# Altium schematic symbol library Analog Devices Amplifiers and Linear Comparators.SchLib: 160 symbols (part 7 of 9)
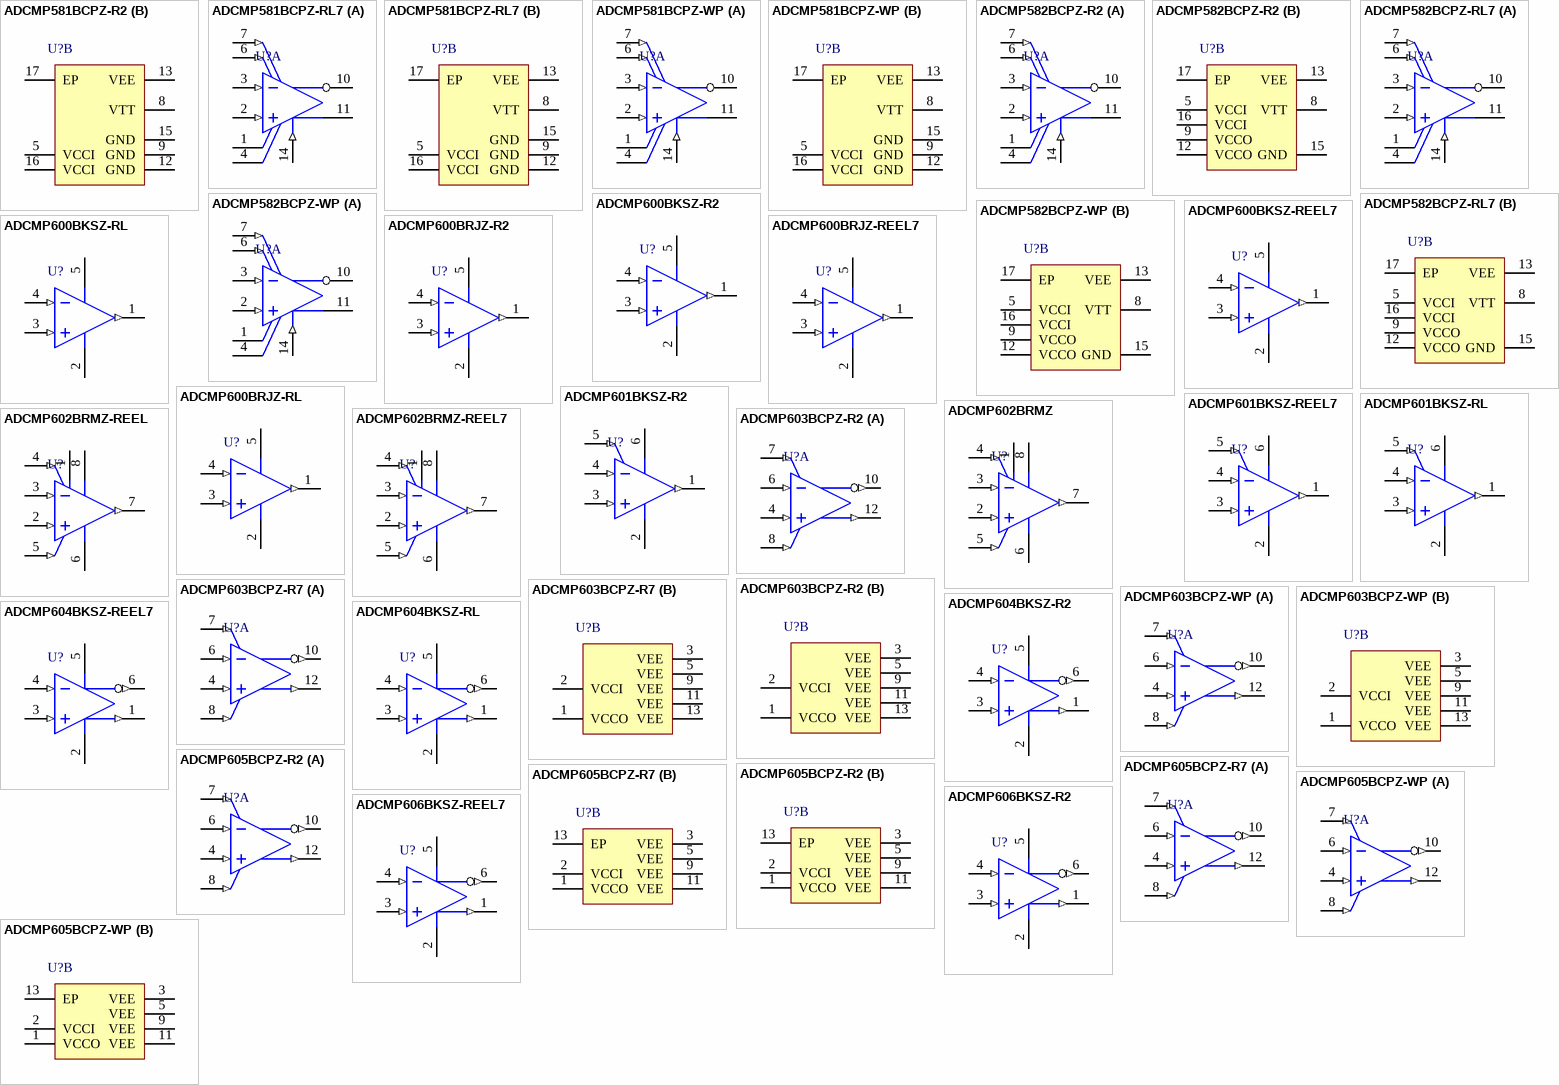
[diagram p13: symbols ADCMP581BCPZ-R2 to ADCMP606BKSZ-REEL7]

## ADCMP601BKSZ-R2
designator U?
Rail-to-Rail, Very Fast, Single-Supply TTL / CMOS Comparator, 2.5 to 5.5 V, 3.5 ns Delay, Industrial, 6-pin SOT23 (KS-6), Reel; Manufacturer: Analog Devices; PartNumber: ADCMP601BKSZ-R2; Input Range (V): -0.2 to VCC+0.2; Supply Current: 3 to 3.5mA; DatasheetVersion: Rev. A; PackageVersion: 072809-A, 07/2009; PackageReference: KS-6; PackageDescription: 6-Pin Thin Shrink Small Outline Transistor Package, Body 2 x 1.25 mm, Pitch 0.65 mm; Supplier 1: Digi-Key; Supplier Part Number 1: ADCMP601BKSZ-R2TR-ND; Supplier 2: Digi-Key; Supplier Part Number 2: ADCMP601BKSZ-R2CT-ND; Supplier 3: Digi-Key; Supplier Part Number 3: ADCMP601BKSZ-R2DKR-ND; Supplier 4: Farnell; Supplier Part Number 4: 1331025; Supplier 5: Farnell; Supplier Part Number 5: 2118961; Supplier 6: Mouser; Supplier Part Number 6: 584-ADCMP601BKSZ-R2; Packing: Reel; Voltage Supply (V): 2.5 to 5.5; Mounting Technology: Surface Mount; Code_JEDEC: MO-203-AB; ComponentLink1Description: Manufacturer URL; ComponentLink1URL: http://www.analog.com/en/index.html; ComponentLink2Description: Datasheet; ComponentLink2URL: http://www.analog.com/static/imported-files/data_sheets/ADCMP600_601_602.pdf; ComponentLink3Description: Package Specification; ComponentLink3URL: http://www.analog.com/static/imported-files/packages/PKG_PDF/SC70(KS)/KS_6.pdf; ComponentLink4Description: URL Link1; ComponentLink4URL: Product URL:http://www.analog.com/en/special-linear-functions/comparators/adcmp601/products/product.html
footprint ADI-KS-6_N (SOT23, 6-Leads, Body 2x1.25mm, Pitch 0.65mm, IPC Medium Density)
footprint ADI-KS-6_L (SOT23, 6-Leads, Body 2x1.25mm, Pitch 0.65mm, IPC High Density)
footprint ADI-KS-6_M (SOT23, 6-Leads, Body 2x1.25mm, Pitch 0.65mm, IPC Low Density)
pins: 1 Q (out) "Noninverting Output. Q is at logic high if the analog voltage at the noninverting input, VP, is greater than the analog voltage at the inverting input, VN, if the comparator is in compare mode.", 2 GND (power) "Negative Supply Voltage.", 3 VP (in) "Noninverting Analog Input.", 4 VN (in) "Inverting Analog Input.", 5 LE/HYS (in) "Latch/Hysteresis Control. Bias with resistor or current for hysteresis adjustment; drive low to latch.", 6 VCCI/VCCO (power) "Input Section Supply/Output Section Supply. Shared pin."

## ADCMP601BKSZ-REEL7
designator U?
Rail-to-Rail, Very Fast, Single-Supply TTL / CMOS Comparator, 2.5 to 5.5 V, 3.5 ns Delay, Industrial, 6-pin SOT23 (KS-6), Reel; Manufacturer: Analog Devices; PartNumber: ADCMP601BKSZ-REEL7; Input Range (V): -0.2 to VCC+0.2; Supply Current: 3 to 3.5mA; DatasheetVersion: Rev. A; PackageVersion: 072809-A, 07/2009; PackageReference: KS-6; PackageDescription: 6-Pin Thin Shrink Small Outline Transistor Package, Body 2 x 1.25 mm, Pitch 0.65 mm; Supplier 1: Digi-Key; Supplier Part Number 1: ADCMP601BKSZ-REEL7TR-ND; Supplier 2: Digi-Key; Supplier Part Number 2: ADCMP601BKSZ-REEL7CT-ND; Supplier 3: Digi-Key; Supplier Part Number 3: ADCMP601BKSZ-REEL7DKR-ND; Supplier 4: Mouser; Supplier Part Number 4: 584-ADCMP601BKSZR7; Packing: Reel; Voltage Supply (V): 2.5 to 5.5; Mounting Technology: Surface Mount; Code_JEDEC: MO-203-AB; ComponentLink1Description: Manufacturer URL; ComponentLink1URL: http://www.analog.com/en/index.html; ComponentLink2Description: Datasheet; ComponentLink2URL: http://www.analog.com/static/imported-files/data_sheets/ADCMP600_601_602.pdf; ComponentLink3Description: Package Specification; ComponentLink3URL: http://www.analog.com/static/imported-files/packages/PKG_PDF/SC70(KS)/KS_6.pdf; ComponentLink4Description: URL Link1; ComponentLink4URL: Product URL:http://www.analog.com/en/special-linear-functions/comparators/adcmp601/products/product.html
footprint ADI-KS-6_N (SOT23, 6-Leads, Body 2x1.25mm, Pitch 0.65mm, IPC Medium Density)
footprint ADI-KS-6_L (SOT23, 6-Leads, Body 2x1.25mm, Pitch 0.65mm, IPC High Density)
footprint ADI-KS-6_M (SOT23, 6-Leads, Body 2x1.25mm, Pitch 0.65mm, IPC Low Density)
pins: 1 Q (out) "Noninverting Output. Q is at logic high if the analog voltage at the noninverting input, VP, is greater than the analog voltage at the inverting input, VN, if the comparator is in compare mode.", 2 GND (power) "Negative Supply Voltage.", 3 VP (in) "Noninverting Analog Input.", 4 VN (in) "Inverting Analog Input.", 5 LE/HYS (in) "Latch/Hysteresis Control. Bias with resistor or current for hysteresis adjustment; drive low to latch.", 6 VCCI/VCCO (power) "Input Section Supply/Output Section Supply. Shared pin."

## ADCMP601BKSZ-RL
designator U?
Rail-to-Rail, Very Fast, Single-Supply TTL / CMOS Comparator, 2.5 to 5.5 V, 3.5 ns Delay, Industrial, 6-pin SOT23 (KS-6), Reel; Manufacturer: Analog Devices; PartNumber: ADCMP601BKSZ-RL; Input Range (V): -0.2 to VCC+0.2; Supply Current: 3 to 3.5mA; DatasheetVersion: Rev. A; PackageVersion: 072809-A, 07/2009; PackageReference: KS-6; PackageDescription: 6-Pin Thin Shrink Small Outline Transistor Package, Body 2 x 1.25 mm, Pitch 0.65 mm; Supplier 1: Digi-Key; Supplier Part Number 1: ADCMP601BKSZ-RL-ND; Supplier 2: Mouser; Supplier Part Number 2: 584-ADCMP601BKSZ-R; Packing: Reel; Voltage Supply (V): 2.5 to 5.5; Mounting Technology: Surface Mount; Code_JEDEC: MO-203-AB; ComponentLink1Description: Manufacturer URL; ComponentLink1URL: http://www.analog.com/en/index.html; ComponentLink2Description: Datasheet; ComponentLink2URL: http://www.analog.com/static/imported-files/data_sheets/ADCMP600_601_602.pdf; ComponentLink3Description: Package Specification; ComponentLink3URL: http://www.analog.com/static/imported-files/packages/PKG_PDF/SC70(KS)/KS_6.pdf; ComponentLink4Description: URL Link1; ComponentLink4URL: Product URL:http://www.analog.com/en/special-linear-functions/comparators/adcmp601/products/product.html
footprint ADI-KS-6_N (SOT23, 6-Leads, Body 2x1.25mm, Pitch 0.65mm, IPC Medium Density)
footprint ADI-KS-6_L (SOT23, 6-Leads, Body 2x1.25mm, Pitch 0.65mm, IPC High Density)
footprint ADI-KS-6_M (SOT23, 6-Leads, Body 2x1.25mm, Pitch 0.65mm, IPC Low Density)
pins: 1 Q (out) "Noninverting Output. Q is at logic high if the analog voltage at the noninverting input, VP, is greater than the analog voltage at the inverting input, VN, if the comparator is in compare mode.", 2 GND (power) "Negative Supply Voltage.", 3 VP (in) "Noninverting Analog Input.", 4 VN (in) "Inverting Analog Input.", 5 LE/HYS (in) "Latch/Hysteresis Control. Bias with resistor or current for hysteresis adjustment; drive low to latch.", 6 VCCI/VCCO (power) "Input Section Supply/Output Section Supply. Shared pin."

## ADCMP602BRMZ
designator U?
Rail-to-Rail, Very Fast, Single-Supply TTL / CMOS Comparator, 2.5 to 5.5 V, 3.5 ns Delay, Industrial, 8-pin SOP (RM-8), Tube; Manufacturer: Analog Devices; PartNumber: ADCMP602BRMZ; Input Range (V): -0.2 to VCC+0.2; Supply Current: 3 to 3.5mA; DatasheetVersion: Rev. A; PackageVersion: Aug-05; PackageReference: RM-8; PackageDescription: 8-Pin Mini Small Outline Package, Body 3 x 3 mm, Pitch 0.65 mm; Supplier 1: Digi-Key; Supplier Part Number 1: ADCMP602BRMZ-ND; Supplier 2: Farnell; Supplier Part Number 2: 1331026; Supplier 3: Mouser; Supplier Part Number 3: 584-ADCMP602BRMZ; Packing: Tube; Voltage Supply (V): 2.5 to 5.5; Mounting Technology: Surface Mount; Code_JEDEC: MO-187-AA; ComponentLink1Description: Manufacturer URL; ComponentLink1URL: http://www.analog.com/en/index.html; ComponentLink2Description: Datasheet; ComponentLink2URL: http://www.analog.com/static/imported-files/data_sheets/ADCMP600_601_602.pdf; ComponentLink3Description: Package Specification; ComponentLink3URL: http://www.analog.com/static/imported-files/packages/PKG_PDF/MSOP%28RM%29/RM_8.pdf; ComponentLink4Description: URL Link1; ComponentLink4URL: Product URL:http://www.analog.com/en/special-linear-functions/comparators/adcmp602/products/product.html
footprint ADI-RM-8_N (SOP, 8-Leads, Body 3x3mm, Pitch 0.65mm, IPC Medium Density)
footprint ADI-RM-8_L (SOP, 8-Leads, Body 3x3mm, Pitch 0.65mm, IPC High Density)
footprint ADI-RM-8_M (SOP, 8-Leads, Body 3x3mm, Pitch 0.65mm, IPC Low Density)
pins: 1 VCCI (power) "Input Section Supply.", 2 VP (in) "Noninverting Analog Input.", 3 VN (in) "Inverting Analog Input.", 4 SDN (in) "Shutdown. Drive this pin low to shut down the device.", 5 LE/HYS (in) "Latch/Hysteresis Control. Bias with resistor or current for hysteresis adjustment; drive low to latch.", 6 GND (power) "Negative Supply Voltage.", 7 Q (out) "Noninverting Output. Q is at logic high if the analog voltage at the noninverting input, VP, is greater than the analog voltage at the inverting input, VN, if the comparator is in compare mode.", 8 VCCO (power) "Output Section Supply."

## ADCMP602BRMZ-REEL
designator U?
Rail-to-Rail, Very Fast, Single-Supply TTL / CMOS Comparator, 2.5 to 5.5 V, 3.5 ns Delay, Industrial, 8-pin SOP (RM-8), Reel; Manufacturer: Analog Devices; PartNumber: ADCMP602BRMZ-REEL; Input Range (V): -0.2 to VCC+0.2; Supply Current: 3 to 3.5mA; DatasheetVersion: Rev. A; PackageVersion: Aug-05; PackageReference: RM-8; PackageDescription: 8-Pin Mini Small Outline Package, Body 3 x 3 mm, Pitch 0.65 mm; Supplier 1: Digi-Key; Supplier Part Number 1: ADCMP602BRMZ-REEL-ND; Supplier 2: Mouser; Supplier Part Number 2: 584-ADCMP602BRMZ-R; Packing: Reel; Voltage Supply (V): 2.5 to 5.5; Mounting Technology: Surface Mount; Code_JEDEC: MO-187-AA; ComponentLink1Description: Manufacturer URL; ComponentLink1URL: http://www.analog.com/en/index.html; ComponentLink2Description: Datasheet; ComponentLink2URL: http://www.analog.com/static/imported-files/data_sheets/ADCMP600_601_602.pdf; ComponentLink3Description: Package Specification; ComponentLink3URL: http://www.analog.com/static/imported-files/packages/PKG_PDF/MSOP%28RM%29/RM_8.pdf; ComponentLink4Description: URL Link1; ComponentLink4URL: Product URL:http://www.analog.com/en/special-linear-functions/comparators/adcmp602/products/product.html
footprint ADI-RM-8_N (SOP, 8-Leads, Body 3x3mm, Pitch 0.65mm, IPC Medium Density)
footprint ADI-RM-8_L (SOP, 8-Leads, Body 3x3mm, Pitch 0.65mm, IPC High Density)
footprint ADI-RM-8_M (SOP, 8-Leads, Body 3x3mm, Pitch 0.65mm, IPC Low Density)
pins: 1 VCCI (power) "Input Section Supply.", 2 VP (in) "Noninverting Analog Input.", 3 VN (in) "Inverting Analog Input.", 4 SDN (in) "Shutdown. Drive this pin low to shut down the device.", 5 LE/HYS (in) "Latch/Hysteresis Control. Bias with resistor or current for hysteresis adjustment; drive low to latch.", 6 GND (power) "Negative Supply Voltage.", 7 Q (out) "Noninverting Output. Q is at logic high if the analog voltage at the noninverting input, VP, is greater than the analog voltage at the inverting input, VN, if the comparator is in compare mode.", 8 VCCO (power) "Output Section Supply."

## ADCMP602BRMZ-REEL7
designator U?
Rail-to-Rail, Very Fast, Single-Supply TTL / CMOS Comparator, 2.5 to 5.5 V, 3.5 ns Delay, Industrial, 8-pin SOP (RM-8), Reel; Manufacturer: Analog Devices; PartNumber: ADCMP602BRMZ-REEL7; Input Range (V): -0.2 to VCC+0.2; Supply Current: 3 to 3.5mA; DatasheetVersion: Rev. A; PackageVersion: Aug-05; PackageReference: RM-8; PackageDescription: 8-Pin Mini Small Outline Package, Body 3 x 3 mm, Pitch 0.65 mm; Supplier 1: Digi-Key; Supplier Part Number 1: ADCMP602BRMZ-REEL7-ND; Supplier 2: Mouser; Supplier Part Number 2: 584-ADCMP602BRMZR7; Packing: Reel; Voltage Supply (V): 2.5 to 5.5; Mounting Technology: Surface Mount; Code_JEDEC: MO-187-AA; ComponentLink1Description: Manufacturer URL; ComponentLink1URL: http://www.analog.com/en/index.html; ComponentLink2Description: Datasheet; ComponentLink2URL: http://www.analog.com/static/imported-files/data_sheets/ADCMP600_601_602.pdf; ComponentLink3Description: Package Specification; ComponentLink3URL: http://www.analog.com/static/imported-files/packages/PKG_PDF/MSOP%28RM%29/RM_8.pdf; ComponentLink4Description: URL Link1; ComponentLink4URL: Product URL:http://www.analog.com/en/special-linear-functions/comparators/adcmp602/products/product.html
footprint ADI-RM-8_N (SOP, 8-Leads, Body 3x3mm, Pitch 0.65mm, IPC Medium Density)
footprint ADI-RM-8_L (SOP, 8-Leads, Body 3x3mm, Pitch 0.65mm, IPC High Density)
footprint ADI-RM-8_M (SOP, 8-Leads, Body 3x3mm, Pitch 0.65mm, IPC Low Density)
pins: 1 VCCI (power) "Input Section Supply.", 2 VP (in) "Noninverting Analog Input.", 3 VN (in) "Inverting Analog Input.", 4 SDN (in) "Shutdown. Drive this pin low to shut down the device.", 5 LE/HYS (in) "Latch/Hysteresis Control. Bias with resistor or current for hysteresis adjustment; drive low to latch.", 6 GND (power) "Negative Supply Voltage.", 7 Q (out) "Noninverting Output. Q is at logic high if the analog voltage at the noninverting input, VP, is greater than the analog voltage at the inverting input, VN, if the comparator is in compare mode.", 8 VCCO (power) "Output Section Supply."

## ADCMP603BCPZ-R2
designator U?
Rail-to-Rail, Very Fast, Single-Supply TTL / CMOS Comparator, 2.5 to 5.5 V, 3.5 ns Delay, Industrial, 12-pin QFN (CP-12-1), Reel; Manufacturer: Analog Devices; PartNumber: ADCMP603BCPZ-R2; Input Range (V): -0.5 to VCC+0.5; DatasheetVersion: Rev. 0; PackageReference: CP-12-1; PackageDescription: 12-Pin Lead Frame Chip Scale Package, Body 3 x 3 mm, Pitch 0.5 mm; Supplier 1: Digi-Key; Supplier Part Number 1: ADCMP603BCPZ-R2-ND; Supplier 2: Farnell; Supplier Part Number 2: 1331027; Supplier 3: Mouser; Supplier Part Number 3: 584-ADCMP603BCPZ-R2; Packing: Reel; Voltage Supply (V): 2.5 to 5.5; Mounting Technology: Surface Mount; Code_JEDEC: MO-220-VEED-1; ComponentLink1Description: Manufacturer URL; ComponentLink1URL: http://www.analog.com/en/index.html; ComponentLink2Description: Datasheet; ComponentLink2URL: http://www.analog.com/static/imported-files/data_sheets/ADCMP603.pdf; ComponentLink3Description: Package Specification; ComponentLink3URL: http://www.analog.com/static/imported-files/packages/CP_12_1.pdf; ComponentLink4Description: URL Link1; ComponentLink4URL: Product URL:http://www.analog.com/en/special-linear-functions/comparators/adcmp603/products/product.html
footprint ADI-CP-12-1_N (QFN, 12-Leads, Body 3x3mm, Pitch 0.5mm, Thermal Pad 1.3x1.3mm, IPC Medium Density)
footprint ADI-CP-12-1_L (QFN, 12-Leads, Body 3x3mm, Pitch 0.5mm, Thermal Pad 1.3x1.3mm, IPC High Density)
footprint ADI-CP-12-1_M (QFN, 12-Leads, Body 3x3mm, Pitch 0.5mm, Thermal Pad 1.3x1.3mm, IPC Low Density)
part A pins: 4 VP (in) "Noninverting Analog Input.", 6 VN (in) "Inverting Analog Input.", 7 SDN (in) "Shutdown. Drive this pin low to shut down the device.", 8 LE/HYS (in) "Latch/Hysteresis Control. Bias with resistor or current for hysteresis adjustment; drive low to latch.", 10 ~{Q} (out) "Inverting Output. Q\ is at logic low if the analog voltage at the noninverting input, VP, is greater than the analog voltage at the inverting input, VN, if the comparator is in compare mode. See the LE/HYS pin description (See Datasheet)", 12 Q (out) "Noninverting Output. Q is at logic high if the analog voltage at the noninverting input, VP, is greater than the analog voltage at the inverting input, VN, if the comparator is in compare mode. See the LE pin description  (See Datasheet)"
part B pins: 1 VCCO (power) "Output Section Supply.", 2 VCCI (power) "Input Section Supply.", 3 VEE (power) "Negative Supply Voltage.", 5 VEE (power) "Negative Supply Voltage.", 9 VEE (power) "Negative Supply Voltage.", 11 VEE (power) "Negative Supply Voltage.", 13 VEE (power) "The metallic back surface of the package is electrically connected to VEE. It can be left floating because Pin 3, Pin 5, Pin 9, and Pin 11 provide adequate electrical connection. It can also be soldered to the application (See Datasheet)"

## ADCMP603BCPZ-R7
designator U?
Rail-to-Rail, Very Fast, Single-Supply TTL / CMOS Comparator, 2.5 to 5.5 V, 3.5 ns Delay, Industrial, 12-pin QFN (CP-12-1), Reel; Manufacturer: Analog Devices; PartNumber: ADCMP603BCPZ-R7; Input Range (V): -0.5 to VCC+0.5; DatasheetVersion: Rev. 0; PackageReference: CP-12-1; PackageDescription: 12-Pin Lead Frame Chip Scale Package, Body 3 x 3 mm, Pitch 0.5 mm; Supplier 1: Digi-Key; Supplier Part Number 1: ADCMP603BCPZ-R7TR-ND; Supplier 2: Digi-Key; Supplier Part Number 2: ADCMP603BCPZ-R7CT-ND; Supplier 3: Digi-Key; Supplier Part Number 3: ADCMP603BCPZ-R7DKR-ND; Supplier 4: Mouser; Supplier Part Number 4: 584-ADCMP603BCPZ-R7; Packing: Reel; Voltage Supply (V): 2.5 to 5.5; Mounting Technology: Surface Mount; Code_JEDEC: MO-220-VEED-1; ComponentLink1Description: Manufacturer URL; ComponentLink1URL: http://www.analog.com/en/index.html; ComponentLink2Description: Datasheet; ComponentLink2URL: http://www.analog.com/static/imported-files/data_sheets/ADCMP603.pdf; ComponentLink3Description: Package Specification; ComponentLink3URL: http://www.analog.com/static/imported-files/packages/CP_12_1.pdf; ComponentLink4Description: URL Link1; ComponentLink4URL: Product URL:http://www.analog.com/en/special-linear-functions/comparators/adcmp603/products/product.html
footprint ADI-CP-12-1_N (QFN, 12-Leads, Body 3x3mm, Pitch 0.5mm, Thermal Pad 1.3x1.3mm, IPC Medium Density)
footprint ADI-CP-12-1_L (QFN, 12-Leads, Body 3x3mm, Pitch 0.5mm, Thermal Pad 1.3x1.3mm, IPC High Density)
footprint ADI-CP-12-1_M (QFN, 12-Leads, Body 3x3mm, Pitch 0.5mm, Thermal Pad 1.3x1.3mm, IPC Low Density)
part A pins: 4 VP (in) "Noninverting Analog Input.", 6 VN (in) "Inverting Analog Input.", 7 SDN (in) "Shutdown. Drive this pin low to shut down the device.", 8 LE/HYS (in) "Latch/Hysteresis Control. Bias with resistor or current for hysteresis adjustment; drive low to latch.", 10 ~{Q} (out) "Inverting Output. Q\ is at logic low if the analog voltage at the noninverting input, VP, is greater than the analog voltage at the inverting input, VN, if the comparator is in compare mode. See the LE/HYS pin description (See Datasheet)", 12 Q (out) "Noninverting Output. Q is at logic high if the analog voltage at the noninverting input, VP, is greater than the analog voltage at the inverting input, VN, if the comparator is in compare mode. See the LE pin description  (See Datasheet)"
part B pins: 1 VCCO (power) "Output Section Supply.", 2 VCCI (power) "Input Section Supply.", 3 VEE (power) "Negative Supply Voltage.", 5 VEE (power) "Negative Supply Voltage.", 9 VEE (power) "Negative Supply Voltage.", 11 VEE (power) "Negative Supply Voltage.", 13 VEE (power) "The metallic back surface of the package is electrically connected to VEE. It can be left floating because Pin 3, Pin 5, Pin 9, and Pin 11 provide adequate electrical connection. It can also be soldered to the application (See Datasheet)"

## ADCMP603BCPZ-WP
designator U?
Rail-to-Rail, Very Fast, Single-Supply TTL / CMOS Comparator, 2.5 to 5.5 V, 3.5 ns Delay, Industrial, 12-pin QFN (CP-12-1), Tray; Manufacturer: Analog Devices; PartNumber: ADCMP603BCPZ-WP; Input Range (V): -0.5 to VCC+0.5; DatasheetVersion: Rev. 0; PackageReference: CP-12-1; PackageDescription: 12-Pin Lead Frame Chip Scale Package, Body 3 x 3 mm, Pitch 0.5 mm; Supplier 1: Digi-Key; Supplier Part Number 1: ADCMP603BCPZ-WP-ND; Supplier 2: Mouser; Supplier Part Number 2: 584-ADCMP603BCPZ-WP; Packing: Tray; Voltage Supply (V): 2.5 to 5.5; Mounting Technology: Surface Mount; Code_JEDEC: MO-220-VEED-1; ComponentLink1Description: Manufacturer URL; ComponentLink1URL: http://www.analog.com/en/index.html; ComponentLink2Description: Datasheet; ComponentLink2URL: http://www.analog.com/static/imported-files/data_sheets/ADCMP603.pdf; ComponentLink3Description: Package Specification; ComponentLink3URL: http://www.analog.com/static/imported-files/packages/CP_12_1.pdf; ComponentLink4Description: URL Link1; ComponentLink4URL: Product URL:http://www.analog.com/en/special-linear-functions/comparators/adcmp603/products/product.html
footprint ADI-CP-12-1_N (QFN, 12-Leads, Body 3x3mm, Pitch 0.5mm, Thermal Pad 1.3x1.3mm, IPC Medium Density)
footprint ADI-CP-12-1_L (QFN, 12-Leads, Body 3x3mm, Pitch 0.5mm, Thermal Pad 1.3x1.3mm, IPC High Density)
footprint ADI-CP-12-1_M (QFN, 12-Leads, Body 3x3mm, Pitch 0.5mm, Thermal Pad 1.3x1.3mm, IPC Low Density)
part A pins: 4 VP (in) "Noninverting Analog Input.", 6 VN (in) "Inverting Analog Input.", 7 SDN (in) "Shutdown. Drive this pin low to shut down the device.", 8 LE/HYS (in) "Latch/Hysteresis Control. Bias with resistor or current for hysteresis adjustment; drive low to latch.", 10 ~{Q} (out) "Inverting Output. Q\ is at logic low if the analog voltage at the noninverting input, VP, is greater than the analog voltage at the inverting input, VN, if the comparator is in compare mode. See the LE/HYS pin description (See Datasheet)", 12 Q (out) "Noninverting Output. Q is at logic high if the analog voltage at the noninverting input, VP, is greater than the analog voltage at the inverting input, VN, if the comparator is in compare mode. See the LE pin description  (See Datasheet)"
part B pins: 1 VCCO (power) "Output Section Supply.", 2 VCCI (power) "Input Section Supply.", 3 VEE (power) "Negative Supply Voltage.", 5 VEE (power) "Negative Supply Voltage.", 9 VEE (power) "Negative Supply Voltage.", 11 VEE (power) "Negative Supply Voltage.", 13 VEE (power) "The metallic back surface of the package is electrically connected to VEE. It can be left floating because Pin 3, Pin 5, Pin 9, and Pin 11 provide adequate electrical connection. It can also be soldered to the application (See Datasheet)"

## ADCMP604BKSZ-R2
designator U?
Rail-to-Rail, Very Fast, Single-Supply LVDS Comparator, 2.5 to 5.5 V, 1.6 ns Delay, Industrial, 6-pin SOT23 (KS-6), Reel; Manufacturer: Analog Devices; PartNumber: ADCMP604BKSZ-R2; Input Range (V): -0.2 to VCC+0.2; Total Power (mW): 42mW; DatasheetVersion: Rev. A; PackageVersion: 072809-A, 07/2009; PackageReference: KS-6; PackageDescription: 6-Pin Thin Shrink Small Outline Transistor Package, Body 2 x 1.25 mm, Pitch 0.65 mm; Supplier 1: Digi-Key; Supplier Part Number 1: ADCMP604BKSZ-R2TR-ND; Supplier 2: Digi-Key; Supplier Part Number 2: ADCMP604BKSZ-R2CT-ND; Supplier 3: Digi-Key; Supplier Part Number 3: ADCMP604BKSZ-R2DKR-ND; Supplier 4: Farnell; Supplier Part Number 4: 1331028; Supplier 5: Mouser; Supplier Part Number 5: 584-ADCMP604BKSZ-R2; Packing: Reel; Voltage Supply (V): 2.5 to 5.5; Mounting Technology: Surface Mount; Code_JEDEC: MO-203-AB; ComponentLink1Description: Manufacturer URL; ComponentLink1URL: http://www.analog.com/en/index.html; ComponentLink2Description: Datasheet; ComponentLink2URL: http://www.analog.com/static/imported-files/data_sheets/ADCMP604_605.pdf; ComponentLink3Description: Package Specification; ComponentLink3URL: http://www.analog.com/static/imported-files/packages/PKG_PDF/SC70(KS)/KS_6.pdf; ComponentLink4Description: URL Link1; ComponentLink4URL: Product URL:http://www.analog.com/en/special-linear-functions/comparators/adcmp604/products/product.html
footprint ADI-KS-6_N (SOT23, 6-Leads, Body 2x1.25mm, Pitch 0.65mm, IPC Medium Density)
footprint ADI-KS-6_L (SOT23, 6-Leads, Body 2x1.25mm, Pitch 0.65mm, IPC High Density)
footprint ADI-KS-6_M (SOT23, 6-Leads, Body 2x1.25mm, Pitch 0.65mm, IPC Low Density)
pins: 1 Q (out) "Noninverting Output. Q is at logic high if the analog voltage at the noninverting input, VP, is greater than the analog voltage at the inverting input, VN.", 2 VEE (power) "Negative Supply Voltage.", 3 VP (in) "Noninverting Analog Input.", 4 VN (in) "Inverting Analog Input.", 5 VCCI/VCCO (power) "Input Section Supply/Output Section Supply. VCCI and VCCO are shared pin.", 6 ~{Q} (out) "Inverting Output. Q\ is at logic low if the analog voltage at the noninverting input, VP, is greater than the analog voltage at the inverting input, VN."

## ADCMP604BKSZ-REEL7
designator U?
Rail-to-Rail, Very Fast, Single-Supply LVDS Comparator, 2.5 to 5.5 V, 1.6 ns Delay, Industrial, 6-pin SOT23 (KS-6), Reel; Manufacturer: Analog Devices; PartNumber: ADCMP604BKSZ-REEL7; Input Range (V): -0.2 to VCC+0.2; Total Power (mW): 42mW; DatasheetVersion: Rev. A; PackageVersion: 072809-A, 07/2009; PackageReference: KS-6; PackageDescription: 6-Pin Thin Shrink Small Outline Transistor Package, Body 2 x 1.25 mm, Pitch 0.65 mm; Supplier 1: Digi-Key; Supplier Part Number 1: ADCMP604BKSZ-REEL7TR-ND; Supplier 2: Digi-Key; Supplier Part Number 2: ADCMP604BKSZ-REEL7CT-ND; Supplier 3: Digi-Key; Supplier Part Number 3: ADCMP604BKSZ-REEL7DKR-ND; Supplier 4: Farnell; Supplier Part Number 4: 2376810; Supplier 5: Mouser; Supplier Part Number 5: 584-ADCMP604BKSZR7; Packing: Reel; Voltage Supply (V): 2.5 to 5.5; Mounting Technology: Surface Mount; Code_JEDEC: MO-203-AB; ComponentLink1Description: Manufacturer URL; ComponentLink1URL: http://www.analog.com/en/index.html; ComponentLink2Description: Datasheet; ComponentLink2URL: http://www.analog.com/static/imported-files/data_sheets/ADCMP604_605.pdf; ComponentLink3Description: Package Specification; ComponentLink3URL: http://www.analog.com/static/imported-files/packages/PKG_PDF/SC70(KS)/KS_6.pdf; ComponentLink4Description: URL Link1; ComponentLink4URL: Product URL:http://www.analog.com/en/special-linear-functions/comparators/adcmp604/products/product.html
footprint ADI-KS-6_N (SOT23, 6-Leads, Body 2x1.25mm, Pitch 0.65mm, IPC Medium Density)
footprint ADI-KS-6_L (SOT23, 6-Leads, Body 2x1.25mm, Pitch 0.65mm, IPC High Density)
footprint ADI-KS-6_M (SOT23, 6-Leads, Body 2x1.25mm, Pitch 0.65mm, IPC Low Density)
pins: 1 Q (out) "Noninverting Output. Q is at logic high if the analog voltage at the noninverting input, VP, is greater than the analog voltage at the inverting input, VN.", 2 VEE (power) "Negative Supply Voltage.", 3 VP (in) "Noninverting Analog Input.", 4 VN (in) "Inverting Analog Input.", 5 VCCI/VCCO (power) "Input Section Supply/Output Section Supply. VCCI and VCCO are shared pin.", 6 ~{Q} (out) "Inverting Output. Q\ is at logic low if the analog voltage at the noninverting input, VP, is greater than the analog voltage at the inverting input, VN."

## ADCMP604BKSZ-RL
designator U?
Rail-to-Rail, Very Fast, Single-Supply LVDS Comparator, 2.5 to 5.5 V, 1.6 ns Delay, Industrial, 6-pin SOT23 (KS-6), Reel; Manufacturer: Analog Devices; PartNumber: ADCMP604BKSZ-RL; Input Range (V): -0.2 to VCC+0.2; Total Power (mW): 42mW; DatasheetVersion: Rev. A; PackageVersion: 072809-A, 07/2009; PackageReference: KS-6; PackageDescription: 6-Pin Thin Shrink Small Outline Transistor Package, Body 2 x 1.25 mm, Pitch 0.65 mm; Supplier 1: Digi-Key; Supplier Part Number 1: ADCMP604BKSZ-RL-ND; Supplier 2: Mouser; Supplier Part Number 2: 584-ADCMP604BKSZ-R; Packing: Reel; Voltage Supply (V): 2.5 to 5.5; Mounting Technology: Surface Mount; Code_JEDEC: MO-203-AB; ComponentLink1Description: Manufacturer URL; ComponentLink1URL: http://www.analog.com/en/index.html; ComponentLink2Description: Datasheet; ComponentLink2URL: http://www.analog.com/static/imported-files/data_sheets/ADCMP604_605.pdf; ComponentLink3Description: Package Specification; ComponentLink3URL: http://www.analog.com/static/imported-files/packages/PKG_PDF/SC70(KS)/KS_6.pdf; ComponentLink4Description: URL Link1; ComponentLink4URL: Product URL:http://www.analog.com/en/special-linear-functions/comparators/adcmp604/products/product.html
footprint ADI-KS-6_N (SOT23, 6-Leads, Body 2x1.25mm, Pitch 0.65mm, IPC Medium Density)
footprint ADI-KS-6_L (SOT23, 6-Leads, Body 2x1.25mm, Pitch 0.65mm, IPC High Density)
footprint ADI-KS-6_M (SOT23, 6-Leads, Body 2x1.25mm, Pitch 0.65mm, IPC Low Density)
pins: 1 Q (out) "Noninverting Output. Q is at logic high if the analog voltage at the noninverting input, VP, is greater than the analog voltage at the inverting input, VN.", 2 VEE (power) "Negative Supply Voltage.", 3 VP (in) "Noninverting Analog Input.", 4 VN (in) "Inverting Analog Input.", 5 VCCI/VCCO (power) "Input Section Supply/Output Section Supply. VCCI and VCCO are shared pin.", 6 ~{Q} (out) "Inverting Output. Q\ is at logic low if the analog voltage at the noninverting input, VP, is greater than the analog voltage at the inverting input, VN."

## ADCMP605BCPZ-R2
designator U?
Rail-to-Rail, Very Fast, Single-Supply LVDS Comparator, 2.5 to 5.5 V, 1.5 ns Delay, Industrial, 12-pin QFN (CP-12-1), Reel; Manufacturer: Analog Devices; PartNumber: ADCMP605BCPZ-R2; Input Range (V): -0.2 to VCC+0.2; Total Power (mW): 42mW; DatasheetVersion: Rev. A; PackageReference: CP-12-1; PackageDescription: 12-Pin Lead Frame Chip Scale Package, Body 3 x 3 mm, Pitch 0.5 mm; Supplier 1: Digi-Key; Supplier Part Number 1: ADCMP605BCPZ-R2-ND; Supplier 2: Farnell; Supplier Part Number 2: 1331029; Supplier 3: Mouser; Supplier Part Number 3: 584-ADCMP605BCPZ-R2; Packing: Reel; Voltage Supply (V): 2.5 to 5.5; Mounting Technology: Surface Mount; Code_JEDEC: MO-220-VEED-1; ComponentLink1Description: Manufacturer URL; ComponentLink1URL: http://www.analog.com/en/index.html; ComponentLink2Description: Datasheet; ComponentLink2URL: http://www.analog.com/static/imported-files/data_sheets/ADCMP604_605.pdf; ComponentLink3Description: Package Specification; ComponentLink3URL: http://www.analog.com/static/imported-files/packages/CP_12_1.pdf; ComponentLink4Description: URL Link1; ComponentLink4URL: Product URL:http://www.analog.com/en/special-linear-functions/comparators/adcmp605/products/product.html
footprint ADI-CP-12-1_N (QFN, 12-Leads, Body 3x3mm, Pitch 0.5mm, Thermal Pad 1.3x1.3mm, IPC Medium Density)
footprint ADI-CP-12-1_L (QFN, 12-Leads, Body 3x3mm, Pitch 0.5mm, Thermal Pad 1.3x1.3mm, IPC High Density)
footprint ADI-CP-12-1_M (QFN, 12-Leads, Body 3x3mm, Pitch 0.5mm, Thermal Pad 1.3x1.3mm, IPC Low Density)
part A pins: 4 VP (in) "Noninverting Analog Input.", 6 VN (in) "Inverting Analog Input.", 7 SDN (in) "Shutdown. Drive this pin low to shut down the device.", 8 LE/HYS (in) "Latch/Hysteresis Control. Bias with resistor or current for hysteresis; drive low to latch.", 10 ~{Q} (out) "Inverting Output. Q\ is at Logic low if the analog voltage at the noninverting input, VP, is greater than the analog voltage at the inverting input, VN, if the comparator is in compare mode.", 12 Q (out) "Noninverting Output. Q is at Logic high if the analog voltage at the noninverting input, VP, is greater than the analog voltage at the inverting input, VN, if the comparator is in compare mode."
part B pins: 1 VCCO (power) "Output Section Supply.", 2 VCCI (power) "Input Section Supply.", 3 VEE (power) "Negative Supply Voltages.", 5 VEE (power) "Negative Supply Voltages.", 9 VEE (power) "Negative Supply Voltages.", 11 VEE (power) "Negative Supply Voltages.", 13 EP "The metallic back surface of the package is electrically connected to VEE. It can be left floating because Pin 3, Pin 5, Pin 9, and Pin 11 provide adequate electrical connection. It can also be soldered to the application (See Datasheet)"

## ADCMP605BCPZ-R7
designator U?
Rail-to-Rail, Very Fast, Single-Supply LVDS Comparator, 2.5 to 5.5 V, 1.5 ns Delay, Industrial, 12-pin QFN (CP-12-1), Reel; Manufacturer: Analog Devices; PartNumber: ADCMP605BCPZ-R7; Input Range (V): -0.2 to VCC+0.2; Total Power (mW): 42mW; DatasheetVersion: Rev. A; PackageReference: CP-12-1; PackageDescription: 12-Pin Lead Frame Chip Scale Package, Body 3 x 3 mm, Pitch 0.5 mm; Supplier 1: Digi-Key; Supplier Part Number 1: ADCMP605BCPZ-R7TR-ND; Supplier 2: Digi-Key; Supplier Part Number 2: ADCMP605BCPZ-R7CT-ND; Supplier 3: Digi-Key; Supplier Part Number 3: ADCMP605BCPZ-R7DKR-ND; Supplier 4: Mouser; Supplier Part Number 4: 584-ADCMP605BCPZ-R7; Packing: Reel; Voltage Supply (V): 2.5 to 5.5; Mounting Technology: Surface Mount; Code_JEDEC: MO-220-VEED-1; ComponentLink1Description: Manufacturer URL; ComponentLink1URL: http://www.analog.com/en/index.html; ComponentLink2Description: Datasheet; ComponentLink2URL: http://www.analog.com/static/imported-files/data_sheets/ADCMP604_605.pdf; ComponentLink3Description: Package Specification; ComponentLink3URL: http://www.analog.com/static/imported-files/packages/CP_12_1.pdf; ComponentLink4Description: URL Link1; ComponentLink4URL: Product URL:http://www.analog.com/en/special-linear-functions/comparators/adcmp605/products/product.html
footprint ADI-CP-12-1_N (QFN, 12-Leads, Body 3x3mm, Pitch 0.5mm, Thermal Pad 1.3x1.3mm, IPC Medium Density)
footprint ADI-CP-12-1_L (QFN, 12-Leads, Body 3x3mm, Pitch 0.5mm, Thermal Pad 1.3x1.3mm, IPC High Density)
footprint ADI-CP-12-1_M (QFN, 12-Leads, Body 3x3mm, Pitch 0.5mm, Thermal Pad 1.3x1.3mm, IPC Low Density)
part A pins: 4 VP (in) "Noninverting Analog Input.", 6 VN (in) "Inverting Analog Input.", 7 SDN (in) "Shutdown. Drive this pin low to shut down the device.", 8 LE/HYS (in) "Latch/Hysteresis Control. Bias with resistor or current for hysteresis; drive low to latch.", 10 ~{Q} (out) "Inverting Output. Q\ is at Logic low if the analog voltage at the noninverting input, VP, is greater than the analog voltage at the inverting input, VN, if the comparator is in compare mode.", 12 Q (out) "Noninverting Output. Q is at Logic high if the analog voltage at the noninverting input, VP, is greater than the analog voltage at the inverting input, VN, if the comparator is in compare mode."
part B pins: 1 VCCO (power) "Output Section Supply.", 2 VCCI (power) "Input Section Supply.", 3 VEE (power) "Negative Supply Voltages.", 5 VEE (power) "Negative Supply Voltages.", 9 VEE (power) "Negative Supply Voltages.", 11 VEE (power) "Negative Supply Voltages.", 13 EP "The metallic back surface of the package is electrically connected to VEE. It can be left floating because Pin 3, Pin 5, Pin 9, and Pin 11 provide adequate electrical connection. It can also be soldered to the application (See Datasheet)"

## ADCMP605BCPZ-WP
designator U?
Rail-to-Rail, Very Fast, Single-Supply LVDS Comparator, 2.5 to 5.5 V, 1.5 ns Delay, Industrial, 12-pin QFN (CP-12-1), Tray; Manufacturer: Analog Devices; PartNumber: ADCMP605BCPZ-WP; Input Range (V): -0.2 to VCC+0.2; Total Power (mW): 42mW; DatasheetVersion: Rev. A; PackageReference: CP-12-1; PackageDescription: 12-Pin Lead Frame Chip Scale Package, Body 3 x 3 mm, Pitch 0.5 mm; Supplier 1: Digi-Key; Supplier Part Number 1: ADCMP605BCPZ-WP-ND; Supplier 2: Farnell; Supplier Part Number 2: 2376811; Supplier 3: Mouser; Supplier Part Number 3: 584-ADCMP605BCPZ-WP; Packing: Tray; Voltage Supply (V): 2.5 to 5.5; Mounting Technology: Surface Mount; Code_JEDEC: MO-220-VEED-1; ComponentLink1Description: Manufacturer URL; ComponentLink1URL: http://www.analog.com/en/index.html; ComponentLink2Description: Datasheet; ComponentLink2URL: http://www.analog.com/static/imported-files/data_sheets/ADCMP604_605.pdf; ComponentLink3Description: Package Specification; ComponentLink3URL: http://www.analog.com/static/imported-files/packages/CP_12_1.pdf; ComponentLink4Description: URL Link1; ComponentLink4URL: Product URL:http://www.analog.com/en/special-linear-functions/comparators/adcmp605/products/product.html
footprint ADI-CP-12-1_N (QFN, 12-Leads, Body 3x3mm, Pitch 0.5mm, Thermal Pad 1.3x1.3mm, IPC Medium Density)
footprint ADI-CP-12-1_L (QFN, 12-Leads, Body 3x3mm, Pitch 0.5mm, Thermal Pad 1.3x1.3mm, IPC High Density)
footprint ADI-CP-12-1_M (QFN, 12-Leads, Body 3x3mm, Pitch 0.5mm, Thermal Pad 1.3x1.3mm, IPC Low Density)
part A pins: 4 VP (in) "Noninverting Analog Input.", 6 VN (in) "Inverting Analog Input.", 7 SDN (in) "Shutdown. Drive this pin low to shut down the device.", 8 LE/HYS (in) "Latch/Hysteresis Control. Bias with resistor or current for hysteresis; drive low to latch.", 10 ~{Q} (out) "Inverting Output. Q\ is at Logic low if the analog voltage at the noninverting input, VP, is greater than the analog voltage at the inverting input, VN, if the comparator is in compare mode.", 12 Q (out) "Noninverting Output. Q is at Logic high if the analog voltage at the noninverting input, VP, is greater than the analog voltage at the inverting input, VN, if the comparator is in compare mode."
part B pins: 1 VCCO (power) "Output Section Supply.", 2 VCCI (power) "Input Section Supply.", 3 VEE (power) "Negative Supply Voltages.", 5 VEE (power) "Negative Supply Voltages.", 9 VEE (power) "Negative Supply Voltages.", 11 VEE (power) "Negative Supply Voltages.", 13 EP "The metallic back surface of the package is electrically connected to VEE. It can be left floating because Pin 3, Pin 5, Pin 9, and Pin 11 provide adequate electrical connection. It can also be soldered to the application (See Datasheet)"

## ADCMP606BKSZ-R2
designator U?
Rail-to-Rail, Very Fast, Single-Supply CML Comparator, 2.5 to 5.5 V, 1.25 ns Delay, Industrial, 6-pin SOT23 (KS-6), Reel; Manufacturer: Analog Devices; PartNumber: ADCMP606BKSZ-R2; Input Range (V): -0.2 to VCC+0.2; Total Power (mW): 62mW; DatasheetVersion: Rev. A; PackageVersion: 072809-A, 07/2009; PackageReference: KS-6; PackageDescription: 6-Pin Thin Shrink Small Outline Transistor Package, Body 2 x 1.25 mm, Pitch 0.65 mm; Supplier 1: Digi-Key; Supplier Part Number 1: ADCMP606BKSZ-R2TR-ND; Supplier 2: Digi-Key; Supplier Part Number 2: ADCMP606BKSZ-R2CT-ND; Supplier 3: Digi-Key; Supplier Part Number 3: ADCMP606BKSZ-R2DKR-ND; Supplier 4: Farnell; Supplier Part Number 4: 1331030; Supplier 5: Mouser; Supplier Part Number 5: 584-ADCMP606BKSZ-R2; Packing: Reel; Voltage Supply (V): 2.5 to 5.5; Mounting Technology: Surface Mount; Code_JEDEC: MO-203-AB; ComponentLink1Description: Manufacturer URL; ComponentLink1URL: http://www.analog.com/en/index.html; ComponentLink2Description: Datasheet; ComponentLink2URL: http://www.analog.com/static/imported-files/data_sheets/ADCMP606_607.pdf; ComponentLink3Description: Package Specification; ComponentLink3URL: http://www.analog.com/static/imported-files/packages/PKG_PDF/SC70(KS)/KS_6.pdf; ComponentLink4Description: URL Link1; ComponentLink4URL: Product URL:http://www.analog.com/en/special-linear-functions/comparators/adcmp606/products/product.html
footprint ADI-KS-6_N (SOT23, 6-Leads, Body 2x1.25mm, Pitch 0.65mm, IPC Medium Density)
footprint ADI-KS-6_L (SOT23, 6-Leads, Body 2x1.25mm, Pitch 0.65mm, IPC High Density)
footprint ADI-KS-6_M (SOT23, 6-Leads, Body 2x1.25mm, Pitch 0.65mm, IPC Low Density)
pins: 1 Q (out) "Noninverting Output. Q is at logic high if the analog voltage at the noninverting input, VP, is greater than the analog voltage at the inverting input, VN.", 2 VEE (power) "Negative Supply Voltage.", 3 VP (in) "Noninverting Analog Input.", 4 VN (in) "Inverting Analog Input.", 5 VCCI/VCCO (power) "Input Section Supply/Output Section Supply. VCCI and VCCO are shared pin.", 6 ~{Q} (out) "Inverting Output. Q\ is at logic low if the analog voltage at the noninverting input, VP, is greater than the analog voltage at the inverting input, VN."

## ADCMP606BKSZ-REEL7
designator U?
Rail-to-Rail, Very Fast, Single-Supply CML Comparator, 2.5 to 5.5 V, 1.25 ns Delay, Industrial, 6-pin SOT23 (KS-6), Reel; Manufacturer: Analog Devices; PartNumber: ADCMP606BKSZ-REEL7; Input Range (V): -0.2 to VCC+0.2; Total Power (mW): 62mW; DatasheetVersion: Rev. A; PackageVersion: 072809-A, 07/2009; PackageReference: KS-6; PackageDescription: 6-Pin Thin Shrink Small Outline Transistor Package, Body 2 x 1.25 mm, Pitch 0.65 mm; Supplier 1: Digi-Key; Supplier Part Number 1: ADCMP606BKSZ-REEL7TR-ND; Supplier 2: Digi-Key; Supplier Part Number 2: ADCMP606BKSZ-REEL7CT-ND; Supplier 3: Digi-Key; Supplier Part Number 3: ADCMP606BKSZ-REEL7DKR-ND; Supplier 4: Mouser; Supplier Part Number 4: 584-ADCMP606BKSZR7; Packing: Reel; Voltage Supply (V): 2.5 to 5.5; Mounting Technology: Surface Mount; Code_JEDEC: MO-203-AB; ComponentLink1Description: Manufacturer URL; ComponentLink1URL: http://www.analog.com/en/index.html; ComponentLink2Description: Datasheet; ComponentLink2URL: http://www.analog.com/static/imported-files/data_sheets/ADCMP606_607.pdf; ComponentLink3Description: Package Specification; ComponentLink3URL: http://www.analog.com/static/imported-files/packages/PKG_PDF/SC70(KS)/KS_6.pdf; ComponentLink4Description: URL Link1; ComponentLink4URL: Product URL:http://www.analog.com/en/special-linear-functions/comparators/adcmp606/products/product.html
footprint ADI-KS-6_N (SOT23, 6-Leads, Body 2x1.25mm, Pitch 0.65mm, IPC Medium Density)
footprint ADI-KS-6_L (SOT23, 6-Leads, Body 2x1.25mm, Pitch 0.65mm, IPC High Density)
footprint ADI-KS-6_M (SOT23, 6-Leads, Body 2x1.25mm, Pitch 0.65mm, IPC Low Density)
pins: 1 Q (out) "Noninverting Output. Q is at logic high if the analog voltage at the noninverting input, VP, is greater than the analog voltage at the inverting input, VN.", 2 VEE (power) "Negative Supply Voltage.", 3 VP (in) "Noninverting Analog Input.", 4 VN (in) "Inverting Analog Input.", 5 VCCI/VCCO (power) "Input Section Supply/Output Section Supply. VCCI and VCCO are shared pin.", 6 ~{Q} (out) "Inverting Output. Q\ is at logic low if the analog voltage at the noninverting input, VP, is greater than the analog voltage at the inverting input, VN."

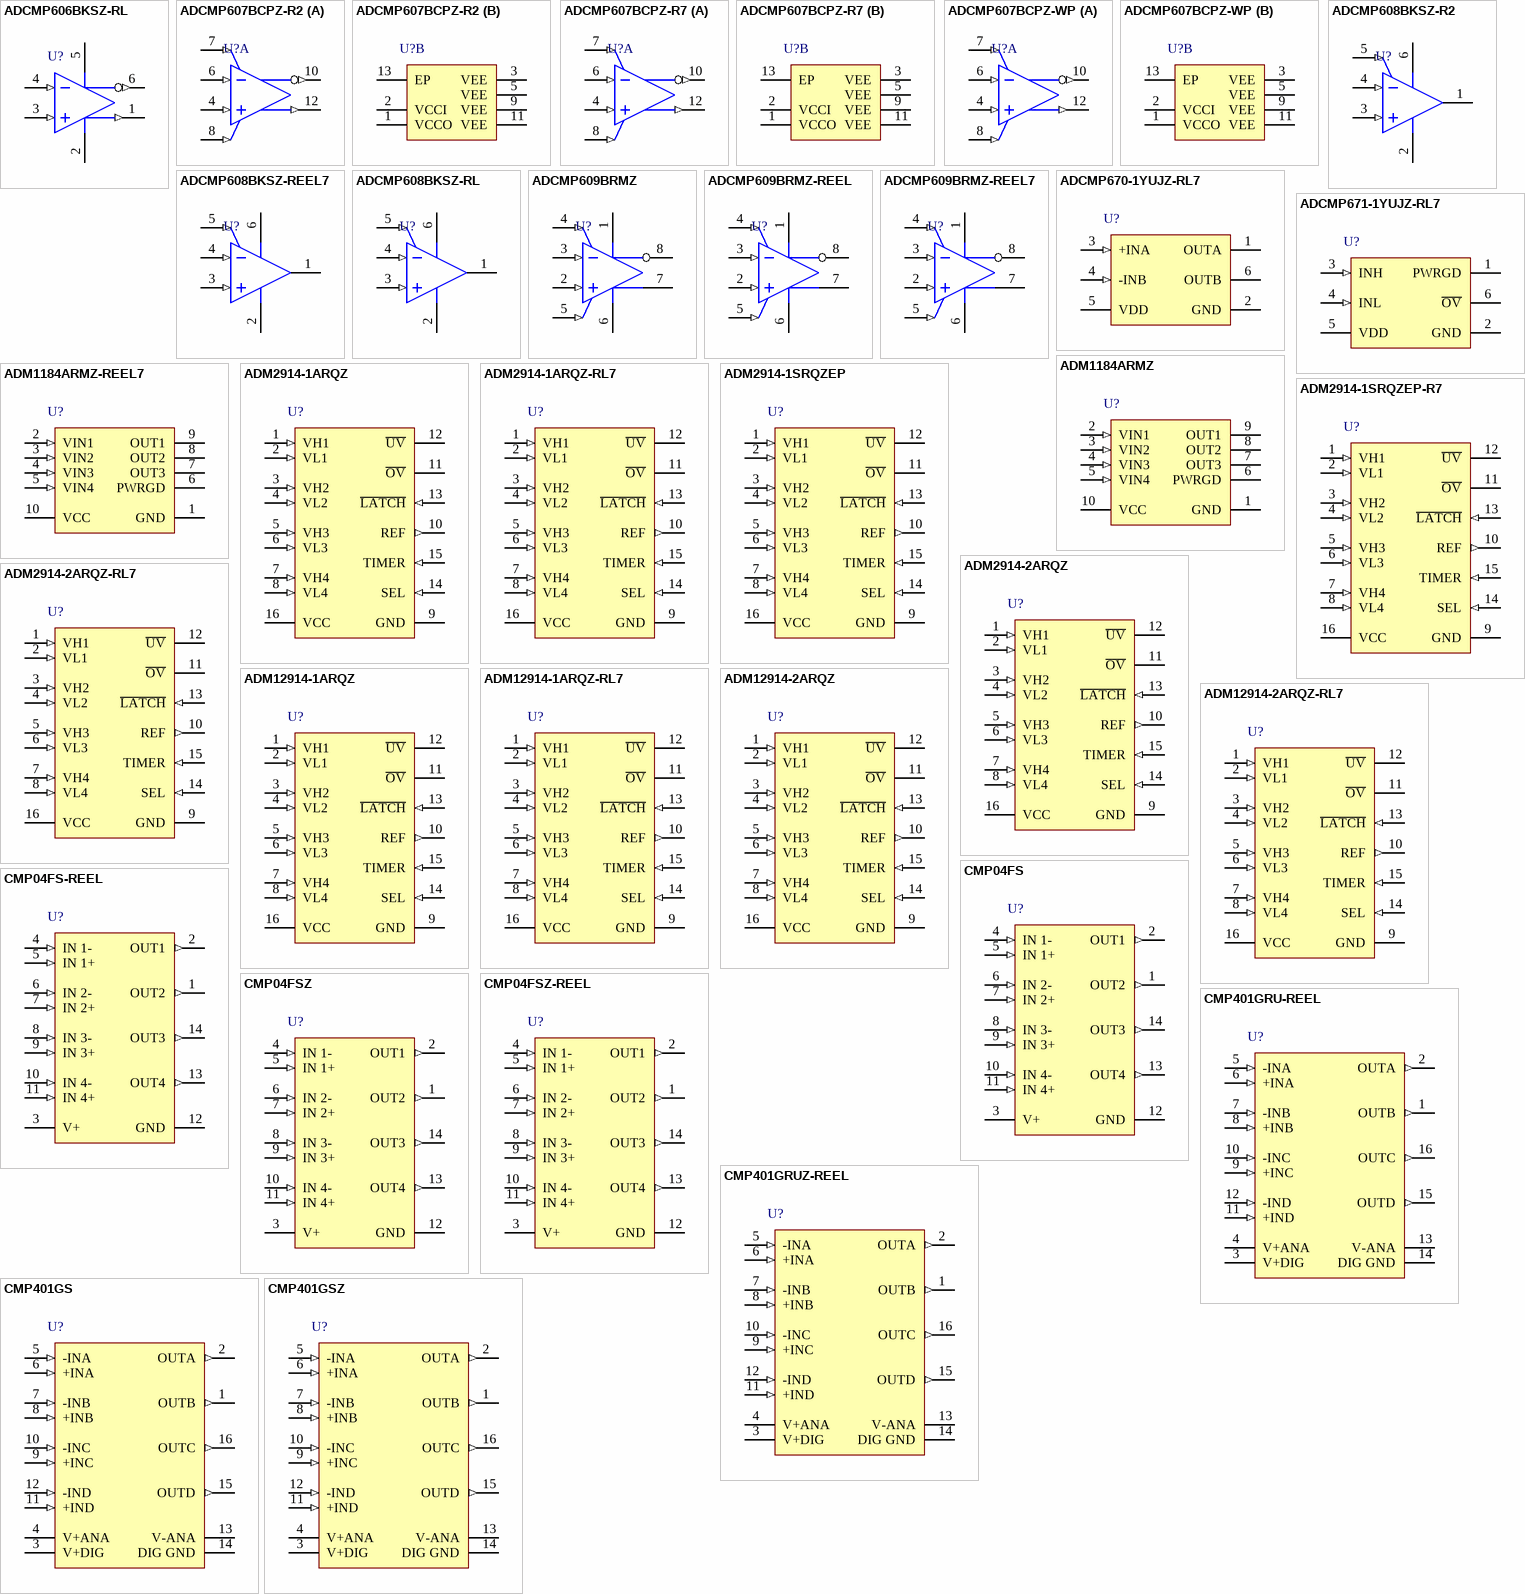
[diagram p6: symbols ADCMP606BKSZ-RL to CMP401GSZ]

## ADCMP606BKSZ-RL
designator U?
Rail-to-Rail, Very Fast, Single-Supply CML Comparator, 2.5 to 5.5 V, 1.25 ns Delay, Industrial, 6-pin SOT23 (KS-6), Reel; Manufacturer: Analog Devices; PartNumber: ADCMP606BKSZ-RL; Input Range (V): -0.2 to VCC+0.2; Total Power (mW): 62mW; DatasheetVersion: Rev. A; PackageVersion: 072809-A, 07/2009; PackageReference: KS-6; PackageDescription: 6-Pin Thin Shrink Small Outline Transistor Package, Body 2 x 1.25 mm, Pitch 0.65 mm; Supplier 1: Digi-Key; Supplier Part Number 1: ADCMP606BKSZ-RL-ND; Supplier 2: Mouser; Supplier Part Number 2: 584-ADCMP606BKSZ-R; Packing: Reel; Voltage Supply (V): 2.5 to 5.5; Mounting Technology: Surface Mount; Code_JEDEC: MO-203-AB; ComponentLink1Description: Manufacturer URL; ComponentLink1URL: http://www.analog.com/en/index.html; ComponentLink2Description: Datasheet; ComponentLink2URL: http://www.analog.com/static/imported-files/data_sheets/ADCMP606_607.pdf; ComponentLink3Description: Package Specification; ComponentLink3URL: http://www.analog.com/static/imported-files/packages/PKG_PDF/SC70(KS)/KS_6.pdf; ComponentLink4Description: URL Link1; ComponentLink4URL: Product URL:http://www.analog.com/en/special-linear-functions/comparators/adcmp606/products/product.html
footprint ADI-KS-6_N (SOT23, 6-Leads, Body 2x1.25mm, Pitch 0.65mm, IPC Medium Density)
footprint ADI-KS-6_L (SOT23, 6-Leads, Body 2x1.25mm, Pitch 0.65mm, IPC High Density)
footprint ADI-KS-6_M (SOT23, 6-Leads, Body 2x1.25mm, Pitch 0.65mm, IPC Low Density)
pins: 1 Q (out) "Noninverting Output. Q is at logic high if the analog voltage at the noninverting input, VP, is greater than the analog voltage at the inverting input, VN.", 2 VEE (power) "Negative Supply Voltage.", 3 VP (in) "Noninverting Analog Input.", 4 VN (in) "Inverting Analog Input.", 5 VCCI/VCCO (power) "Input Section Supply/Output Section Supply. VCCI and VCCO are shared pin.", 6 ~{Q} (out) "Inverting Output. Q\ is at logic low if the analog voltage at the noninverting input, VP, is greater than the analog voltage at the inverting input, VN."

## ADCMP607BCPZ-R2
designator U?
Rail-to-Rail, Very Fast, Single-Supply CML Comparator, 2.5 to 5.5 V, 1.25 ns Delay, Industrial, 12-pin QFN (CP-12-1), Reel; Manufacturer: Analog Devices; PartNumber: ADCMP607BCPZ-R2; Input Range (V): -0.2 to VCC+0.2; Total Power (mW): 62mW; DatasheetVersion: Rev. A; PackageReference: CP-12-1; PackageDescription: 12-Pin Lead Frame Chip Scale Package, Body 3 x 3 mm, Pitch 0.5 mm; Supplier 1: Digi-Key; Supplier Part Number 1: ADCMP607BCPZ-R2-ND; Supplier 2: Mouser; Supplier Part Number 2: 584-ADCMP607BCPZ-R2; Packing: Reel; Voltage Supply (V): 2.5 to 5.5; Mounting Technology: Surface Mount; Code_JEDEC: MO-220-VEED-1; ComponentLink1Description: Manufacturer URL; ComponentLink1URL: http://www.analog.com/en/index.html; ComponentLink2Description: Datasheet; ComponentLink2URL: http://www.analog.com/static/imported-files/data_sheets/ADCMP606_607.pdf; ComponentLink3Description: Package Specification; ComponentLink3URL: http://www.analog.com/static/imported-files/packages/CP_12_1.pdf; ComponentLink4Description: URL Link1; ComponentLink4URL: Product URL:http://www.analog.com/en/special-linear-functions/comparators/adcmp607/products/product.html
footprint ADI-CP-12-1_N (QFN, 12-Leads, Body 3x3mm, Pitch 0.5mm, Thermal Pad 1.3x1.3mm, IPC Medium Density)
footprint ADI-CP-12-1_L (QFN, 12-Leads, Body 3x3mm, Pitch 0.5mm, Thermal Pad 1.3x1.3mm, IPC High Density)
footprint ADI-CP-12-1_M (QFN, 12-Leads, Body 3x3mm, Pitch 0.5mm, Thermal Pad 1.3x1.3mm, IPC Low Density)
part A pins: 4 VP (in) "Noninverting Analog Input.", 6 VN (in) "Inverting Analog Input.", 7 SDN (in) "Shutdown. Drive this pin low to shut down the device.", 8 LE/HYS (in) "Latch/Hysteresis Control. Bias with resistor or current for hysteresis; drive low to latch.", 10 ~{Q} (out) "Inverting Output. Q\ is at Logic low if the analog voltage at the noninverting input, VP, is greater than the analog voltage at the inverting input, VN, if the comparator is in compare mode.", 12 Q (out) "Noninverting Output. Q is at Logic high if the analog voltage at the noninverting input, VP, is greater than the analog voltage at the inverting input, VN, if the comparator is in compare mode."
part B pins: 1 VCCO (power) "Output Section Supply.", 2 VCCI (power) "Input Section Supply.", 3 VEE (power) "Negative Supply Voltages.", 5 VEE (power) "Negative Supply Voltages.", 9 VEE (power) "Negative Supply Voltages.", 11 VEE (power) "Negative Supply Voltages.", 13 EP "The metallic back surface of the package is electrically connected to VEE. It can be left floating because Pin 3, Pin 5, Pin 9, and Pin 11 provide adequate electrical connection. It can also be soldered to the application (See Datasheet)"

## ADCMP607BCPZ-R7
designator U?
Rail-to-Rail, Very Fast, Single-Supply CML Comparator, 2.5 to 5.5 V, 1.25 ns Delay, Industrial, 12-pin QFN (CP-12-1), Reel; Manufacturer: Analog Devices; PartNumber: ADCMP607BCPZ-R7; Input Range (V): -0.2 to VCC+0.2; Total Power (mW): 62mW; DatasheetVersion: Rev. A; PackageReference: CP-12-1; PackageDescription: 12-Pin Lead Frame Chip Scale Package, Body 3 x 3 mm, Pitch 0.5 mm; Supplier 1: Digi-Key; Supplier Part Number 1: ADCMP607BCPZ-R7-ND; Supplier 2: Mouser; Supplier Part Number 2: 584-ADCMP607BCPZ-R7; Packing: Reel; Voltage Supply (V): 2.5 to 5.5; Mounting Technology: Surface Mount; Code_JEDEC: MO-220-VEED-1; ComponentLink1Description: Manufacturer URL; ComponentLink1URL: http://www.analog.com/en/index.html; ComponentLink2Description: Datasheet; ComponentLink2URL: http://www.analog.com/static/imported-files/data_sheets/ADCMP606_607.pdf; ComponentLink3Description: Package Specification; ComponentLink3URL: http://www.analog.com/static/imported-files/packages/CP_12_1.pdf; ComponentLink4Description: URL Link1; ComponentLink4URL: Product URL:http://www.analog.com/en/special-linear-functions/comparators/adcmp607/products/product.html
footprint ADI-CP-12-1_N (QFN, 12-Leads, Body 3x3mm, Pitch 0.5mm, Thermal Pad 1.3x1.3mm, IPC Medium Density)
footprint ADI-CP-12-1_L (QFN, 12-Leads, Body 3x3mm, Pitch 0.5mm, Thermal Pad 1.3x1.3mm, IPC High Density)
footprint ADI-CP-12-1_M (QFN, 12-Leads, Body 3x3mm, Pitch 0.5mm, Thermal Pad 1.3x1.3mm, IPC Low Density)
part A pins: 4 VP (in) "Noninverting Analog Input.", 6 VN (in) "Inverting Analog Input.", 7 SDN (in) "Shutdown. Drive this pin low to shut down the device.", 8 LE/HYS (in) "Latch/Hysteresis Control. Bias with resistor or current for hysteresis; drive low to latch.", 10 ~{Q} (out) "Inverting Output. Q\ is at Logic low if the analog voltage at the noninverting input, VP, is greater than the analog voltage at the inverting input, VN, if the comparator is in compare mode.", 12 Q (out) "Noninverting Output. Q is at Logic high if the analog voltage at the noninverting input, VP, is greater than the analog voltage at the inverting input, VN, if the comparator is in compare mode."
part B pins: 1 VCCO (power) "Output Section Supply.", 2 VCCI (power) "Input Section Supply.", 3 VEE (power) "Negative Supply Voltages.", 5 VEE (power) "Negative Supply Voltages.", 9 VEE (power) "Negative Supply Voltages.", 11 VEE (power) "Negative Supply Voltages.", 13 EP "The metallic back surface of the package is electrically connected to VEE. It can be left floating because Pin 3, Pin 5, Pin 9, and Pin 11 provide adequate electrical connection. It can also be soldered to the application (See Datasheet)"